# Altium schematic symbol library LT1121CN8#PBF.SchLib: 1 symbol
Pins are listed as number, name and electrical type; pins without a type are passive.

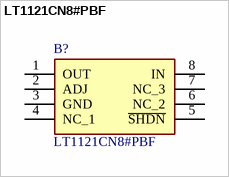
[diagram p0: symbol LT1121CN8#PBF]

## LT1121CN8#PBF
designator B?
Linear Technology LT1121CN8#PBF, LDO Voltage Regulator, Adjustable 150mA, 3.75  30 V, 8-Pin PDIP; Manufacturer_Name: Analog Devices; Geometry.Height: 3.937mm; Arrow Part Number: LT1121CN8#PBF; Arrow Price/Stock: https://www.arrow.com/en/products/lt1121cn8pbf/analog-devices?region=europe; Manufacturer_Part_Number: LT1121CN8#PBF; Datasheet Link: https://www.arrow.com/en/products/lt1121cn8pbf/analog-devices?region=europe
footprint DIP794W53P254L1016H394Q8N
pins: 1 OUT, 2 ADJ, 3 GND, 4 NC_1, 5 ~{SHDN}, 6 NC_2, 7 NC_3, 8 IN